# EAGLE library part SW_DIP-8 (library m328p_rfm69_node)
DIP Switch 8 Position
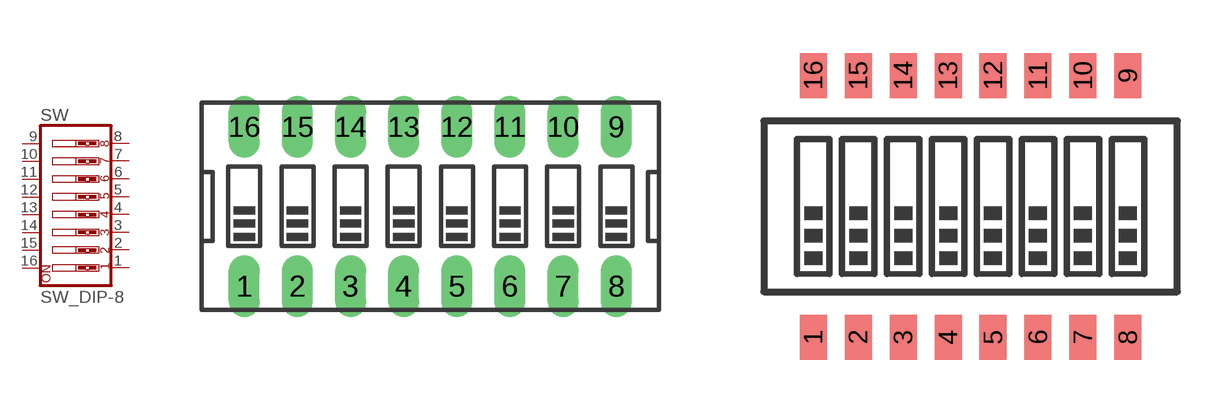
[diagram p2: symbol with the pads of DIPSWITCH-08; footprints DIPSWITCH-08, DIPSWITCH-08-50MIL]

Designator prefix SW

## SW_DIP-8  [DIPSWITCH-08]
1  1  pas
2  2  pas
3  3  pas
4  4  pas
5  5  pas
6  6  pas
7  7  pas
8  8  pas
9  9  pas
10  10  pas
11  11  pas
12  12  pas
13  13  pas
14  14  pas
15  15  pas
16  16  pas

## SW_DIP-8-SMT-HALFSIZE  [DIPSWITCH-08-50MIL]
Pads as for DIPSWITCH-08

## Footprint DIPSWITCH-08 (pad centres in mm)
DIP SWITCH Standard size through-hole DIP switch, 2.54 mm / 0.1" pitch Spark Fun Electronics SKU : COM-08034
drill 0.97 long: 1 -8.89,-3.81; 2 -6.35,-3.81; 3 -3.81,-3.81; 4 -1.27,-3.81; 5 1.27,-3.81; 6 3.81,-3.81; 7 6.35,-3.81; 8 8.89,-3.81; 9 8.89,3.81; 10 6.35,3.81; 11 3.81,3.81; 12 1.27,3.81; 13 -1.27,3.81; 14 -3.81,3.81; 15 -6.35,3.81; 16 -8.89,3.81

## Footprint DIPSWITCH-08-50MIL (pad centres in mm)
DIP SWITCH Half-size SMT DIP switch, 1.27 mm / 0.05" pitch. For example the following: Omron A6H series; Datasheet <http://www.omron.com/ecb/products/pdf/en-a6h.pdf>
smd 0.762 x 1.27: 1 -4.445,-3.7; 2 -3.175,-3.7; 3 -1.905,-3.7; 4 -0.635,-3.7; 5 0.635,-3.7; 6 1.905,-3.7; 7 3.175,-3.7; 8 4.445,-3.7; 9 4.445,3.7; 10 3.175,3.7; 11 1.905,3.7; 12 0.635,3.7; 13 -0.635,3.7; 14 -1.905,3.7; 15 -3.175,3.7; 16 -4.445,3.7